# Altium integrated library 1979.IntLib: 1 symbol
Pins are listed as number, name and electrical type; pins without a type are passive.

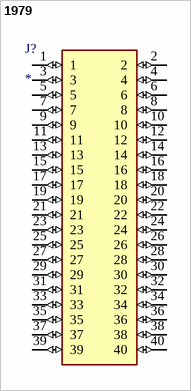
[diagram p0: symbol 1979]

## 1979
designator J?
Stacking Header for Pi A+/B+/Pi 2/Pi 3 - 2x20 Extra Tall Header | Adafruit Industries 1979; MP: 1979; SnapEDA_Link: https://www.snapeda.com/parts/1979/Adafruit+Industries+LLC/view-part/?ref=snap; Package: None; Value: *; MF: Adafruit Industries; Check_prices: https://www.snapeda.com/parts/1979/Adafruit+Industries+LLC/view-part/?ref=eda
footprint RHDR40W60P250_2X20_5100X500X23
pins: 1 (io), 2 (io), 3 (io), 4 (io), 5 (io), 6 (io), 7 (io), 8 (io), 9 (io), 10 (io), 11 (io), 12 (io), 13 (io), 14 (io), 15 (io), 16 (io), 17 (io), 18 (io), 19 (io), 20 (io), 21 (io), 22 (io), 23 (io), 24 (io), 25 (io), 26 (io), 27 (io), 28 (io), 29 (io), 30 (io), 31 (io), 32 (io), 33 (io), 34 (io), 35 (io), 36 (io), 37 (io), 38 (io), 39 (io), 40 (io)